# EAGLE library part COILCRAFT_HP2-0216L (library Microchip-Tim)
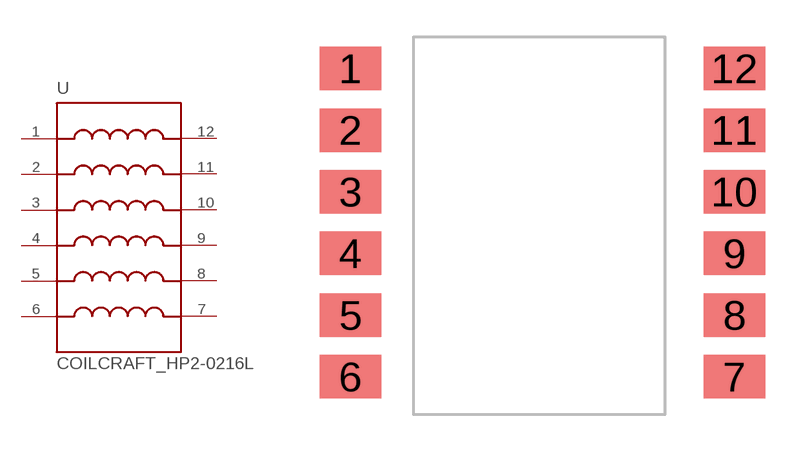
[diagram p4: symbol with the pads of COILCRAFT_HEXA-PATH_HP2; footprint COILCRAFT_HEXA-PATH_HP2]

Designator prefix -

## COILCRAFT_HP2-0216L  [COILCRAFT_HEXA-PATH_HP2]
1  P$1
2  P$2
3  P$3
4  P$4
5  P$5
6  P$6
7  P$7
8  P$8
9  P$9
10  P$10
11  P$11
12  P$12

## Footprint COILCRAFT_HEXA-PATH_HP2 (pad centres in mm)
smd 2.489 x 1.753: 1 -7.62,6.35; 2 -7.62,3.861; 3 -7.62,1.372; 4 -7.62,-1.118; 5 -7.62,-3.607; 6 -7.62,-6.096; 7 7.874,-6.096; 8 7.874,-3.607; 9 7.874,-1.118; 10 7.874,1.372; 11 7.874,3.861; 12 7.874,6.35